# Altium footprint library Capacitor_updated.PcbLib: 42 footprints (part 3 of 3)
Each footprint in its own frame and in the unit in brackets; x right, y up, seen from the top. Pads: shape width x height; smd on the part's side, far side on the other; paste and mask are expansions set on the pad; w line width, h text height; cw(c..) or ccw(c..) is an arc to the next point about the centre after c.
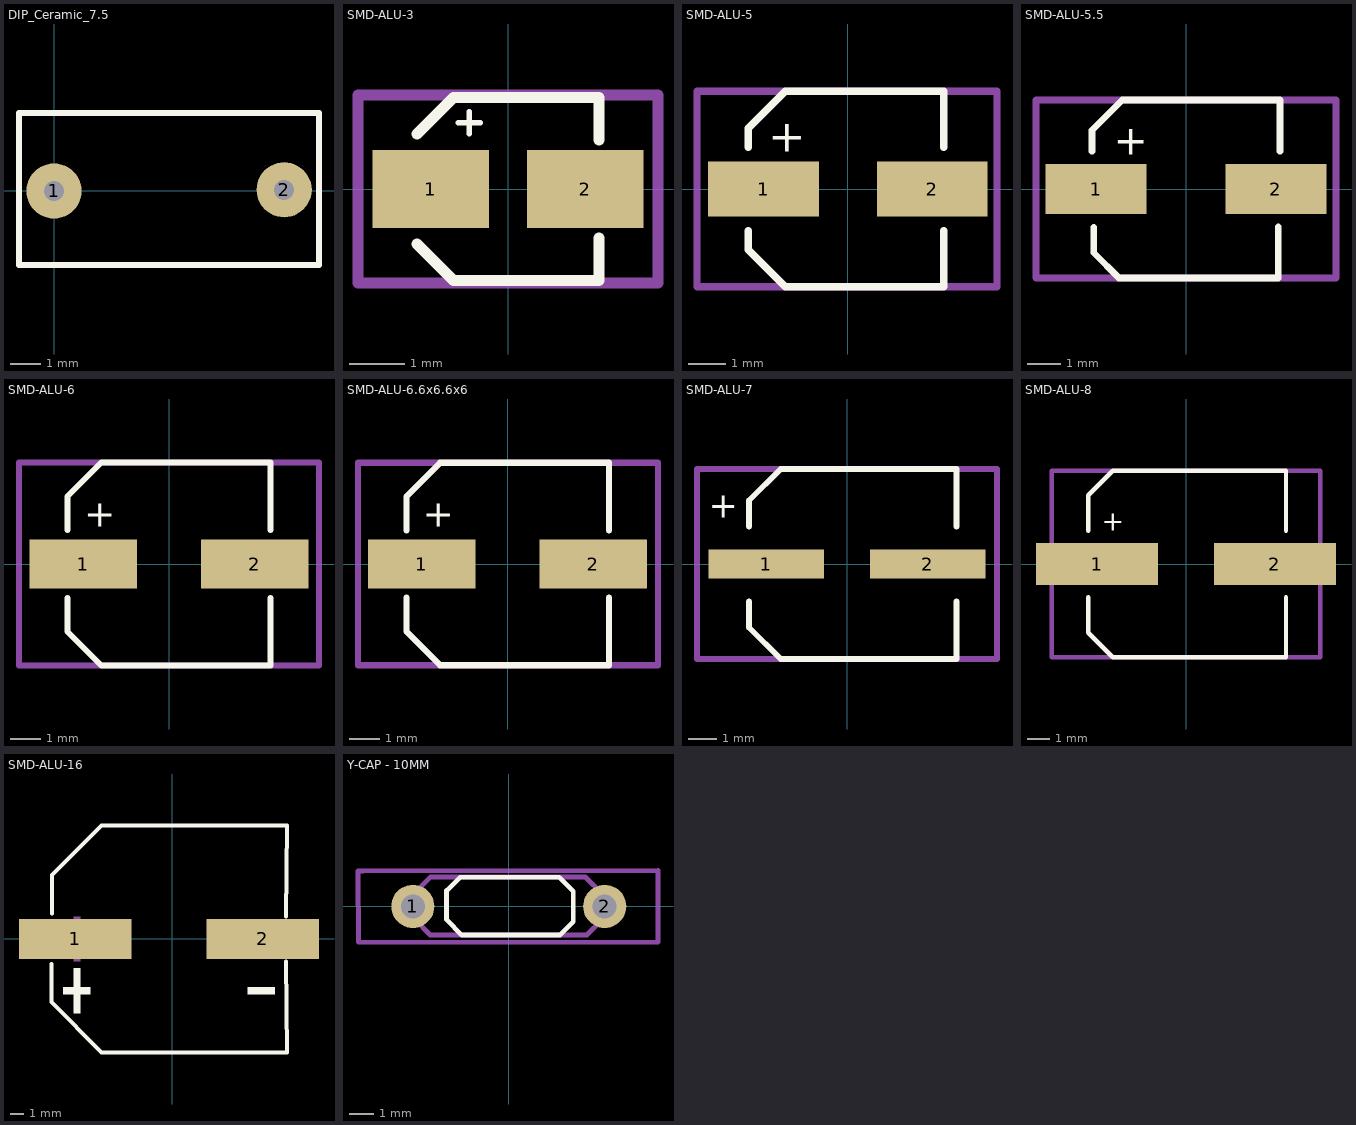
[diagram p2: the footprints below, top view; thin cyan lines are the x and y axes]

## DIP_Ceramic_7.5 [mm]
pads (2):
  round 1.8 hole 0.65: 1(0,0) 2(7.5,0.038)
Top Overlay:
  lines w0.2: -1.143,-2.413 -0.635,-2.413 8.636,-2.413 8.636,2.54 -0.254,2.54 -1.143,2.54 -1.143,-2.413
Mechanical 13:
  lines w0.2: -1.143,-2.413 -1.143,2.54 -0.254,2.54 8.636,2.54 8.636,-2.413 -0.635,-2.413 -1.143,-2.413
  text ".Designator" at 1.397,-0.127 h1
3D body "C907U102MYVDBA7317.step": height 11.5, standoff -19.3, extent -0.265,-2.465 7.885,2.54

## SMD-ALU-3 [mm] "Capacitor, Aluminum Electrolytic; 3.30 mm L X 3.30 mm W X 5.40 mm H body"
height 5.4
pads (2):
  rect 2.11x1.41 smd: 1(-1.4,0) 2(1.4,0)
Top Overlay:
  lines w0.1: -0.9,1.2 -0.5,1.2 ; -0.7,1 -0.7,1.4
  lines w0.2: -1.65,-1 -0.99,-1.655 1.65,-1.655 1.65,-0.89 ; -1.65,1 -0.99,1.655 1.65,1.655 1.65,0.89
Mechanical 13:
  lines w0.2: -2.718,-1.7 -2.718,1.7 2.718,1.7 2.718,-1.7 -2.718,-1.7
  text ".Designator" at -2.388,0.889 h1
3D body "CAP-ALU-SMD-AE330X540.STEP": height 5.4, standoff 0, extent -1.9,-1.65 1.9,1.65

## SMD-ALU-5 [mm]
pads (2):
  rect 3x1.5 smd: 1(-2.286,0) 2(2.286,0)
Top Overlay:
  lines w0.2: -2.7,-1.126 -2.7,-1.65 -1.7,-2.65 2.6,-2.65 2.6,-1.126 ; -2.7,1.126 -2.7,1.65 -1.7,2.65 2.6,2.65 2.6,1.126
  text "+" at -2.159,1.016 h0.89
Mechanical 13:
  lines w0.2: -4.089,-2.65 4.039,-2.65 4.039,0.313 4.039,2.65 -4.089,2.65 -4.089,-2.65
  text ".Designator" at -2.337,1.194 h1
3D body "User Library-ALU-C.STEP": height 5.41, standoff 0, extent -2.95,-2.65 2.95,2.65

## SMD-ALU-5.5 [mm]
pads (2):
  rect 3x1.5 smd: 1(-2.68,0) 2(2.68,0)
Top Overlay:
  lines w0.2: -2.8,1.126 -2.8,1.75 -1.9,2.65 2.8,2.65 2.8,1.126 ; -2.75,-1.15 -2.75,-1.9 -2,-2.65 2.75,-2.65 2.75,-1.126
  text "+" at -2.159,1.016 h0.89
Mechanical 13:
  lines w0.2: -4.47,-2.65 4.47,-2.65 4.47,0.344 4.47,2.65 -4.47,2.65 -4.47,-2.65
  text ".Designator" at -2.591,1.194 h1
3D body "CAP_EEE_C.stp": height 5.56, standoff 0, extent -3.251,-2.756 3.251,2.756

## SMD-ALU-6 [mm]
pads (2):
  rect 3.5x1.6 smd: 1(-2.793,0) 2(2.793,0)
Top Overlay:
  lines w0.2: -3.3,-1.1 -3.3,-2.2 -2.2,-3.3 3.3,-3.3 3.3,-1.1 ; -3.3,1.1 -3.3,2.2 -2.2,3.3 -2,3.3 3.3,3.3 3.3,1.1
  text "+" at -2.759,1.216 h0.89
Mechanical 13:
  lines w0.2: -4.877,-3.3 4.877,-3.3 4.877,3.3 -4.877,3.3 -4.877,-3.3
  text ".Designator" at -2.946,1.092 h1
3D body "CAPAE660X790D660L110X65.STEP": height 7.9, standoff 0, extent -3.3,-3.3 3.3,3.3

## SMD-ALU-6.6x6.6x6 [mm]
pads (2):
  rect 3.5x1.6 smd: 1(-2.793,0) 2(2.793,0)
Top Overlay:
  lines w0.2: -3.3,-1.1 -3.3,-2.2 -2.2,-3.3 3.3,-3.3 3.3,-1.1 ; -3.3,1.1 -3.3,2.2 -2.2,3.3 -2,3.3 3.3,3.3 3.3,1.1
  text "+" at -2.759,1.216 h0.89
Mechanical 13:
  lines w0.2: -4.877,-3.3 -4.877,3.3 4.902,3.3 4.902,-3.3 -4.877,-3.3
  text ".Designator" at -2.87,1.168 h1.2
3D body "CAPAE6866X65M.step": height 6.5, standoff 0, extent -3.4,-3.3 3.4,3.3

## SMD-ALU-7 [mm]
pads (2):
  rect 4x1 smd: 1(-2.8,0) 2(2.8,0)
Top Overlay:
  lines w0.2: -3.4,-1.3 -3.4,-2.2 -2.3,-3.3 3.8,-3.3 3.8,-1.3 ; -3.4,1.3 -3.4,2.2 -2.3,3.3 3.8,3.3 3.8,1.3
  text "+" at -4.8,1.6 h0.89
Mechanical 13:
  lines w0.2: -5.207,-3.3 -5.207,3.3 5.207,3.3 5.207,-3.3 -5.207,-3.3
  text ".Designator" at -2.743,0.787 h1
3D body "EDK226M050A9HAA.step": height 7.91, standoff -0.1, extent -3.8,-3.4 3.8,3.4

## SMD-ALU-8 [mm]
pads (2):
  rect 5.5x1.9 smd: 1(-4,0) 2(4,0)
Top Overlay:
  lines w0.2: -4.4,-1.5 -4.4,-3.1 -3.3,-4.2 4.5,-4.2 4.5,-1.5 ; -4.4,1.5 -4.4,3.1 -3.3,4.2 4.5,4.2 4.5,1.5
  text "+" at -3.8,1.5 h0.89
Mechanical 13:
  lines w0.2: -6.045,-4.2 -6.045,4.2 6.045,4.2 6.045,-4.2 -6.045,-4.2
  text ".Designator" at -2.591,1.245 h1
3D body "CAPAE830X1050D830L395X90.STEP": height 10.5, standoff 0, extent -5.475,-4.15 5.475,4.15

## SMD-ALU-16 [mm]
pads (2):
  rect 8.5x3 smd paste+0 mask+0.051: 1(-7.358,-0.009) 2(6.829,-0.009)
Top Overlay:
  region: -7.486,-2.219 -7.486,-5.619 -6.976,-5.619 -6.976,-2.219
  region: -8.251,-3.664 -8.251,-4.174 -6.211,-4.174 -6.211,-3.664
  region: 7.729,-3.664 7.729,-4.174 5.689,-4.174 5.689,-3.664
  lines w0.3: -9.156,-1.905 -9.156,-4.79 -5.361,-8.585 8.643,-8.585 8.571,-1.706 ; -9.11,1.905 -9.11,4.817 -5.361,8.566 8.643,8.566 8.575,1.691
Mechanical 15:
  region: -7.486,1.691 -7.486,-1.709 -6.976,-1.709 -6.976,1.691
  region: -8.519,0.245 -8.519,-0.265 -5.994,-0.264 -5.994,-0.01 -5.994,0.244
  region: 7.729,0.246 7.729,-0.264 5.689,-0.264 5.689,0.246
3D body "User Library-capacitor size J16.step": height 16.5, standoff -0.01, extent -9.104,-8.51 8.596,8.49

## Y-CAP - 10MM [mm]
pads (2):
  round 1.8 hole 1: 1(-4,0) 2(4,0)
Top Overlay:
  lines w0.2: -2.591,-0.559 -1.956,-1.194 2.134,-1.194 2.692,-0.635 2.692,0.635 2.108,1.219 -2.032,1.219 -2.591,0.66 -2.591,-0.559
Mechanical 13:
  lines w0.2: -6.287,1.473 -6.071,1.473 6.223,1.499 6.223,-1.499 -6.263,-1.499 -6.287,1.473
  text ".Designator" at -3.531,-0.381 h1.5
Mechanical 15:
  lines w0.203: -3.904,-0.559 -3.269,-1.194 3.255,-1.194 3.89,-0.559 3.89,0.529 3.2,1.219 -3.269,1.219 -3.904,0.584 -3.904,-0.051 -3.904,-0.559
Mechanical 29:
  text ".Designator" at -2.921,-0.508 h1.02
3D body "User Library-Y2222.STEP": height 8.1, standoff -3.5, extent -4.205,-2.745 4.205,2.746